# EAGLE library part LTC3255 (library gfe-hand-made)
LTC3255: The LTC3255 is a switched-capacitor step-down DC/DC converter that produces a regulated output (2.4V to 12.5V adjustable) from a 4V to 48V input.
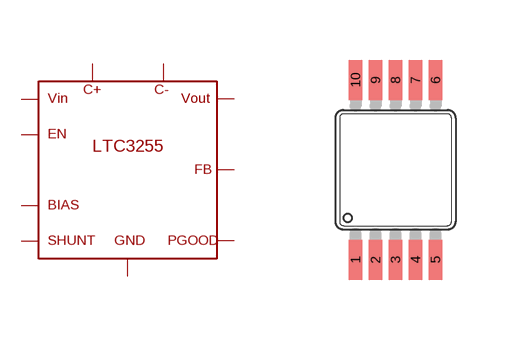
[diagram p1: symbol with the pads of MSOP-10; footprint MSOP-10]

Designator prefix -

## LTC3255  [MSOP-10]
1  1
2  2
3  3
4  4
5  5
6  6
7  7
8  8
9  9
10  10

## Footprint MSOP-10 (pad centres in mm)
smd 0.34 x 1: 1 -1,-2.25; 2 -0.5,-2.25; 3 0,-2.25; 4 0.5,-2.25; 5 1,-2.25; 6 1,2.25; 7 0.5,2.25; 8 0,2.25; 9 -0.5,2.25; 10 -1,2.25